# EAGLE library part TLC555 (library BrownSpaceEngineering)
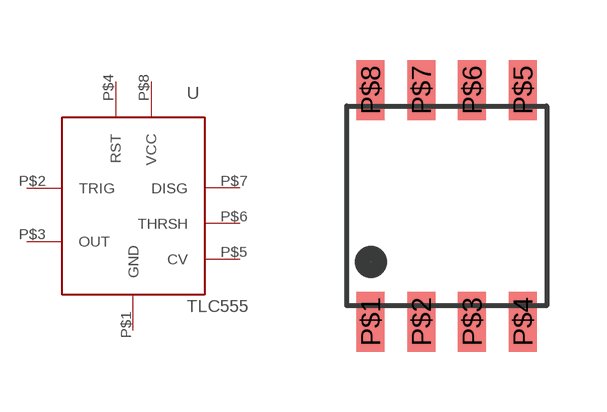
[diagram p17: symbol with the pads of SO-8; footprint SO-8]

Designator prefix U

## TLC555  [SO-8]
P$1  GND
P$2  TRIG
P$3  OUT
P$4  RST
P$5  CV
P$6  THRSH
P$7  DISG
P$8  VCC

## Footprint SO-8 (pad centres in mm)
smd 0.7 x 1.5: P$1 -1.905,-2.9; P$2 -0.635,-2.9; P$3 0.635,-2.9; P$4 1.905,-2.9; P$5 1.905,2.9; P$6 0.635,2.9; P$7 -0.635,2.9; P$8 -1.905,2.9